# Altium footprint library ICs_And_Semiconductors.PcbLib: 3 footprints
Each footprint in its own frame and in the unit in brackets; x right, y up, seen from the top. Pads: shape width x height; smd on the part's side, far side on the other; paste and mask are expansions set on the pad; w line width, h text height; cw(c..) or ccw(c..) is an arc to the next point about the centre after c.
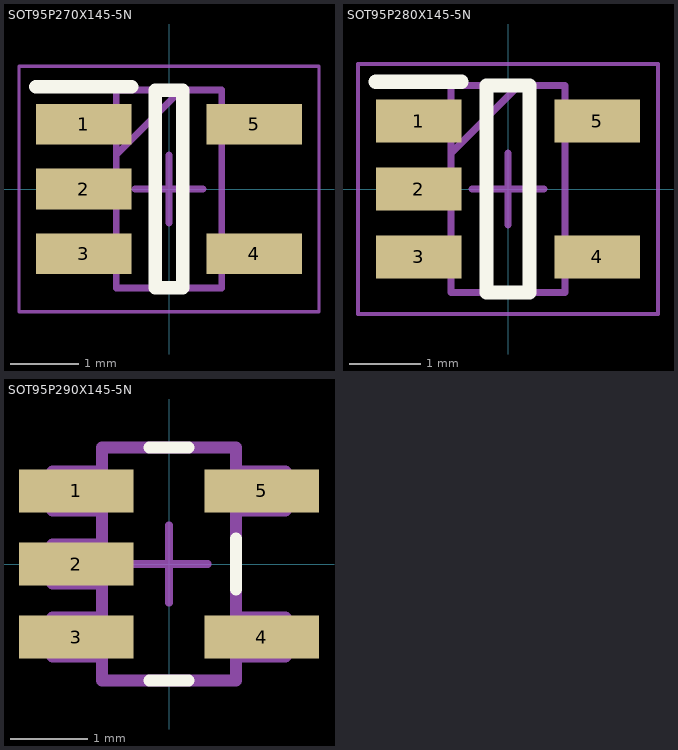
[diagram p0: the footprints below, top view; thin cyan lines are the x and y axes]

## SOT95P270X145-5N [mm]
pads (5):
  rect 1.4x0.6 smd: 1(-1.25,0.95) 2(-1.25,0) 3(-1.25,-0.95) 4(1.25,-0.95) 5(1.25,0.95)
Top Overlay:
  lines w0.2: -1.95,1.5 -0.55,1.5 ; -0.2,-1.45 0.2,-1.45 0.2,1.45 -0.2,1.45 -0.2,-1.45
Assembly Text Top:
  text ".Designator" at -0.418,-0.345 h1
Assembly Top:
  lines w0.1: -0.775,-1.128 -1.35,-1.128 -1.35,-0.772 -0.775,-0.772 ; -0.775,-0.178 -1.35,-0.178 -1.35,0.178 -0.775,0.178 ; -0.775,0.5 0.175,1.45 ; -0.775,0.772 -1.35,0.772 -1.35,1.128 -0.775,1.128 ; 0.775,-1.128 1.35,-1.128 1.35,-0.772 0.775,-0.772 ; 0.775,0.772 1.35,0.772 1.35,1.128 0.775,1.128 ; -0.775,-1.45 0.775,-1.45 0.775,1.45 -0.775,1.45 -0.775,-1.45
Courtyard Top:
  lines w0.05: -2.2,-1.8 2.2,-1.8 2.2,1.8 -2.2,1.8 -2.2,-1.8
  lines w0.1: -0.5,0 0.5,0 ; 0,-0.5 0,0.5
3D body "MCP6001T-I_OT.stp": height 1.45, standoff 0, extent -1.35,-1.45 1.35,1.45

## SOT95P280X145-5N [mm]
pads (5):
  rect 1.2x0.6 smd: 1(-1.25,0.95) 2(-1.25,0) 3(-1.25,-0.95) 4(1.25,-0.95) 5(1.25,0.95)
Top Overlay:
  lines w0.2: -1.85,1.5 -0.65,1.5 ; -0.3,-1.45 0.3,-1.45 0.3,1.45 -0.3,1.45 -0.3,-1.45
Assembly Text Top:
  text ".Designator" at -0.418,-0.345 h1
Assembly Top:
  lines w0.1: -0.8,-1.15 -1.4,-1.15 -1.4,-0.75 -0.8,-0.75 ; -0.8,-0.2 -1.4,-0.2 -1.4,0.2 -0.8,0.2 ; -0.8,0.5 0.15,1.45 ; -0.8,0.75 -1.4,0.75 -1.4,1.15 -0.8,1.15 ; 0.8,-1.15 1.4,-1.15 1.4,-0.75 0.8,-0.75 ; 0.8,0.75 1.4,0.75 1.4,1.15 0.8,1.15 ; -0.8,-1.45 0.8,-1.45 0.8,1.45 -0.8,1.45 -0.8,-1.45
Courtyard Top:
  lines w0.05: -2.1,-1.75 2.1,-1.75 2.1,1.75 -2.1,1.75 -2.1,-1.75
  lines w0.1: -0.5,0 0.5,0 ; 0,-0.5 0,0.5
3D body "FAN4174IS5X.stp": height 1.45, standoff 0, extent -1.4,-1.45 1.4,1.45

## SOT95P290X145-5N [mil]
pads (5):
  rect 58x22 smd: 1(-47,37) 2(-47,0) 3(-47,-37) 4(47,-37) 5(47,37)
Top Overlay:
  lines w6: -10,-59 10,-59 ; -10,59 10,59 ; 34,-13 34,13
3D Top:
  lines w6: -34,-47 -59,-47 -59,-27 -34,-27 ; -34,-47 -34,-27 ; -34,-47 -34,-59 34,-59 34,-47 ; -34,-27 -34,-10 ; -34,-10 -59,-10 -59,10 -34,10 ; -34,-10 -34,10 ; -34,10 -34,27 ; -34,27 -59,27 -59,47 -34,47 ; -34,27 -34,47 ; -34,47 -34,59 -12,59 12,59 34,59 34,47 ; 34,-47 59,-47 59,-27 34,-27 ; 34,-47 34,-27 ; 34,-27 34,27 ; 34,27 59,27 59,47 34,47 ; 34,27 34,47
Courtyard Top:
  lines w3.94: -19.69,0 19.68,0 ; 0,-19.68 0,19.69